# Altium schematic symbol library SCH - RF - LIMITER - PSEMI PE45361.SchLib: 1 symbol
Pins are listed as number, name and electrical type; pins without a type are passive.

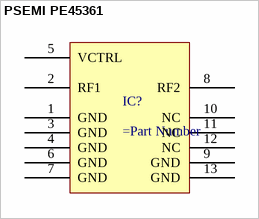
[diagram p0: symbol PSEMI PE45361]

## PSEMI PE45361
designator IC?
pins: 1 GND, 2 RF1, 3 GND, 4 GND, 5 VCTRL, 6 GND, 7 GND, 8 RF2, 9 GND, 10 NC, 11 NC, 12 NC, 13 GND